# Altium footprint library Driver.PcbLib: 18 footprints (part 2 of 2)
Each footprint in its own frame and in the unit in brackets; x right, y up, seen from the top. Pads: shape width x height; smd on the part's side, far side on the other; paste and mask are expansions set on the pad; w line width, h text height; cw(c..) or ccw(c..) is an arc to the next point about the centre after c.
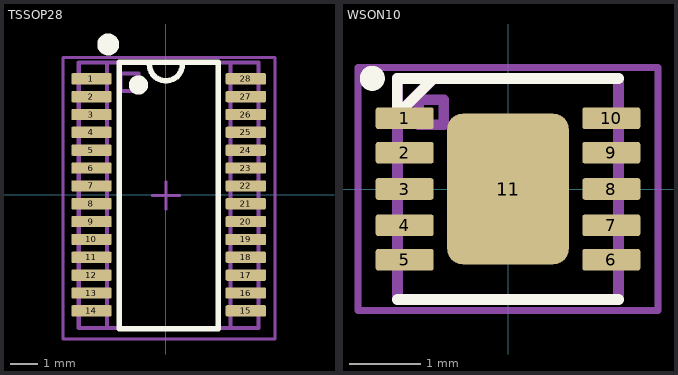
[diagram p1: the footprints below, top view; thin cyan lines are the x and y axes]

## TSSOP28 [mm]
height 1.1
pads (28):
  rrect25% 1.47x0.41 smd: 1(-2.71,4.225) 2(-2.71,3.575) 3(-2.71,2.925) 4(-2.71,2.275) 5(-2.71,1.625) 6(-2.71,0.975) 7(-2.71,0.325) 8(-2.71,-0.325) 9(-2.71,-0.975) 10(-2.71,-1.625) 11(-2.71,-2.275) 12(-2.71,-2.925) 13(-2.71,-3.575) 14(-2.71,-4.225) 15(2.91,-4.225) 16(2.91,-3.575) 17(2.91,-2.925) 18(2.91,-2.275) 19(2.91,-1.625) 20(2.91,-0.975) 21(2.91,-0.325) 22(2.91,0.325) 23(2.91,0.975) 24(2.91,1.625) 25(2.91,2.275) 26(2.91,2.925) 27(2.91,3.575) 28(2.91,4.225)
Top Overlay:
  circle w0.4: c-2.1,5.475 r0.2
  circle w0.4: c-1,4 r0.15
  lines w0.2: -0.6,4.75 ccw(c0,4.75) 0.6,4.75 ; -1.7,-4.875 -1.7,4.825 1.9,4.825 1.9,-4.875 -1.7,-4.875
Mechanical 7:
  lines w0.15: -2.15,-4.85 -2.15,4.825 ; 2.35,-4.825 2.35,4.825 ; -3.175,-4.85 3.375,-4.85 3.375,4.825 -3.175,4.825 -3.175,-4.85 ; -1.65,3.775 -1.65,4.425 -1,4.425 -1,3.775 -1.65,3.775
Mechanical 9:
  text ".Designator" at -4.2,6.1 h3
Mechanical 10:
  text ".Comment" at -2.71,-6.625 h2
Mechanical 15:
  lines w0.1: -0.5,-0.025 0.5,-0.025 ; 0,-0.525 0,0.475 ; -3.75,-5.25 -3.75,5 3.975,5 3.975,-5.25 -3.75,-5.25
3D body "User Library-TSSOP-28.STEP": height 1.2, standoff 0, extent -3.1,-4.85 3.3,4.85

## WSON10 [mil]
height 68.9
pads (11):
  rrect25% 32x12 smd: 1(-57,39) 2(-57,20) 3(-57,0) 4(-57,-20) 5(-57,-39) 6(57,-39) 7(57,-20) 8(57,0) 9(57,20) 10(57,39)
  rrect25% 67x83 smd: 11(0,0)
Top Overlay:
  circle w10: c-74.8,61 r1.88
  lines w5.91: -61,61 -61,41 -41,61
  lines w6: -61,-61 61,-61 ; -61,61 61,61
Mechanical 4:
  lines w6: -61,-61 -61,61 ; -61,-61 61,-61 ; -61,-61 -61,61 ; -61,-61 61,-61 ; -61,61 61,61 ; -61,61 61,61 ; 61,-61 61,61 ; 61,-61 61,61 ; -61,41 -41,61 -61,41
Mechanical 7:
  lines w5.91: -61.02,-61 61,-61 61,61 -61.02,61 -61.02,-61 ; -49.21,35.43 -35.43,35.43 -35.43,49.21 -49.21,49.21 -49.21,35.43
Mechanical 9:
  text ".Designator" at -157.48,98.43 h118.11
Mechanical 10:
  text ".Comment" at -108.27,-127.95 h78.74
Mechanical 15:
  lines w3.94: -29.53,0 29.53,0 ; 0,-29.53 0,29.53 ; -82.68,-66.93 82.68,-66.93 82.68,66.93 -82.68,66.93 -82.68,-66.93
3D body "User Library-10WSON (1).step": height 27.17, standoff -0.2, extent -59.27,-59.07 59.24,59.04